# Altium schematic symbol library RAM.SchLib: 1 symbol
Pins are listed as number, name and electrical type; pins without a type are passive.

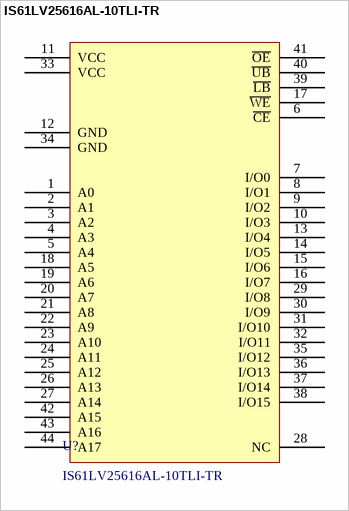
[diagram p0: symbol IS61LV25616AL-10TLI-TR]

## IS61LV25616AL-10TLI-TR
designator U?
256K x 16 HIGH SPEED ASYNCHRONOUS CMOS STATIC RAM WITH 3.3V SUPPLY; Manufacturer: ISSI; Active Read Current - Max: Active; Interface Type: Parallel; Maximum Clock Frequency: 100 MHz; Memory Size: 4 Mbit; Supply Voltage - Max: 3.6 V; Supply Voltage - Min: 3.1 V; Supplier 1 URL: https://www.mouser.vn/ProductDetail/ISSI/IS61LV25616AL-10TLI-TR?qs=YdQ7Kj7W0bwd5Hs%252BZkTrDw%3D%3D; Supplier 2 URL: https://www.digikey.com/en/products/detail/gigadevice-semiconductor-hk-limited/GD25Q64CSIGR/9484691?s=N4IgTCBcDaIOIBEwFYCKA2ALAYQMoEk4AlEAXQF8g; Supplier 3 URL: https://www.digikey.com/en/products/detail/issi-integrated-silicon-solution-inc/is61lv25616al-10tli-tr/1557305; Value: IS61LV25616AL-10TLI-TR; Manufacturer Part Number: IS61LV25616AL-10TLI-TR; Packaging: Tape and Reel; Supplier 1: Mouser; Supplier 1 Part Number: 87061LV25616AL10TLIT; Supplier 2: Digi-Key; Supplier 2 Part Number: 706-1305-2-ND; Supplier 3: thegioiic; Supplier 3 Part Number: N/A; Mount: SMD/SMT; Operating Temperature Max: + 85 C; Operating Temperature Min: - 40 C; Package / Case: 44-TSOP; ComponentLink1Description: Datasheet; ComponentLink1URL: https://www.mouser.vn/datasheet/2/198/61LV25616AL-258498.pdf
footprint IS61LV25616AL-10TLI-TR (TSOP, 44-Leads, Body 18.41x10.16mm, Pitch 0.80mm, IPC Medium Density)
pins: 1 A0, 2 A1, 3 A2, 4 A3, 5 A4, 6 ~{CE}, 7 I/O0, 8 I/O1, 9 I/O2, 10 I/O3, 11 VCC, 12 GND, 13 I/O4, 14 I/O5, 15 I/O6, 16 I/O7, 17 ~{WE}, 18 A5, 19 A6, 20 A7, 21 A8, 22 A9, 23 A10, 24 A11, 25 A12, 26 A13, 27 A14, 28 NC, 29 I/O8, 30 I/O9, 31 I/O10, 32 I/O11, 33 VCC, 34 GND, 35 I/O12, 36 I/O13, 37 I/O14, 38 I/O15, 39 ~{LB}, 40 ~{UB}, 41 ~{OE}, 42 A15, 43 A16, 44 A17